# Altium schematic symbol library SCH - SWITCHES - CAS-220TB1.SchLib: 1 symbol
Pins are listed as number, name and electrical type; pins without a type are passive.

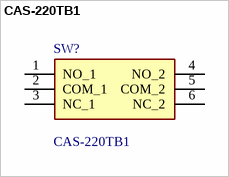
[diagram p0: symbol CAS-220TB1]

## CAS-220TB1
designator SW?
Slide Switches DPDT, ON-ON, slide, gull wing SMD term 100mA @ 6V DC, non-washable without seal tape; Manufacturer_Name: NIDEC COPAL; Geometry.Height: 2.5mm; Mouser Part Number: 229-CAS-220TB1; Mouser Price/Stock: https://www.mouser.co.uk/ProductDetail/Nidec-Copal/CAS-220TB1?qs=XeJtXLiO41Sz0QciIS4rqg%3D%3D; Manufacturer_Part_Number: CAS-220TB1; Datasheet Link: https://datasheet.datasheetarchive.com/originals/distributors/Datasheets_SAMA/f6adab8ba93ff0af24ad591dd62eee18.pdf
footprint CASD20B1
pins: 1 NO_1, 2 COM_1, 3 NC_1, 4 NO_2, 5 COM_2, 6 NC_2